# Altium schematic symbol library Switch.SchLib: 1 symbol
Pins are listed as number, name and electrical type; pins without a type are passive.

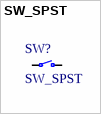
[diagram p0: symbol SW_SPST]

## SW_SPST
designator SW?
Single Pole Single Throw (SPST) switch
footprint SW_SPST_3.2x4.2mm_H2.5mm_White
pins: 1, 2